# Altium footprint library WE-LHMI_1365.PcbLib: 1 footprints
Each footprint in its own frame and in the unit in brackets; x right, y up, seen from the top. Pads: shape width x height; smd on the part's side, far side on the other; paste and mask are expansions set on the pad; w line width, h text height; cw(c..) or ccw(c..) is an arc to the next point about the centre after c.
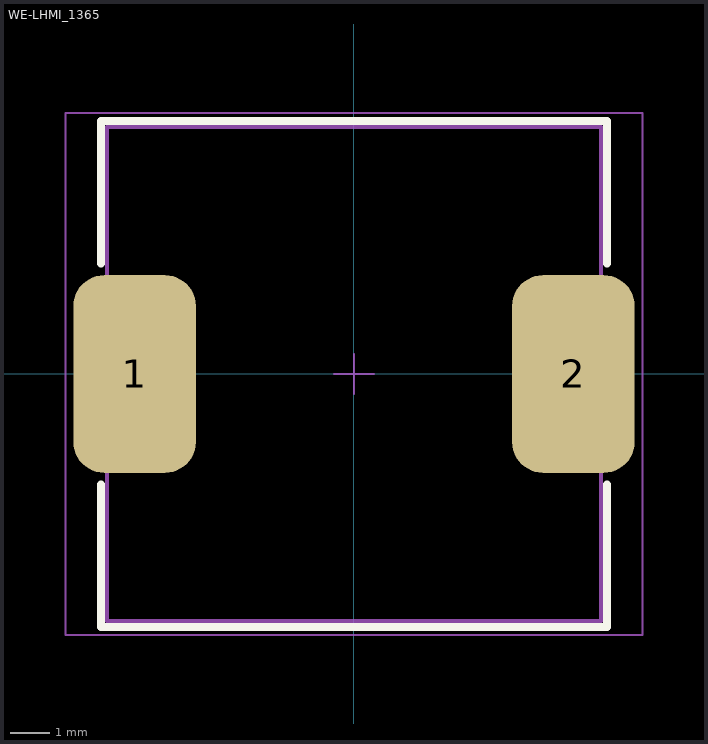
[diagram p0: the footprint, top view; thin cyan lines are the x and y axes]

## WE-LHMI_1365 [mm] "SMT Power Inductor, 2-Leads, body 12.5x12.5mm"
height 6.5
pads (2):
  rrect50% 3.1x5 smd: 1(-5.55,0) 2(5.55,0)
Top Overlay:
  lines w0.2: -6.4,-2.8 -6.4,-6.4 6.4,-6.4 6.4,-2.8 ; -6.4,2.8 -6.4,6.4 6.4,6.4 6.4,2.8
Top Assembly:
  lines w0.1: -6.25,-6.25 6.25,-6.25 6.25,6.25 -6.25,6.25 -6.25,-6.25
Top Courtyard:
  lines w0.05: -0.5,0 0.5,0 ; 0,-0.5 0,0.5 ; -7.3,-6.6 7.3,-6.6 7.3,6.6 -7.3,6.6 -7.3,-6.6
3D body "STEP-WE-LHMI-1365-rev1.stp": height 6.22, standoff 0.02, extent -6.75,-6.25 6.75,6.25